# Altium schematic symbol library 105314-2104.SchLib: 1 symbol
Pins are listed as number, name and electrical type; pins without a type are passive.

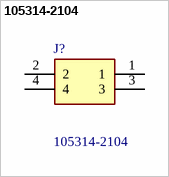
[diagram p0: symbol 105314-2104]

## 105314-2104
designator J?
Headers & Wire Housings NANOFIT HDR RA DLR 4CKT TIN NAT; Manufacturer_Name: Molex; Geometry.Height: 9.14mm; Mouser Part Number: 538-105314-2104; Mouser Price/Stock: https://www.mouser.co.uk/ProductDetail/Molex/105314-2104?qs=5aG0NVq1C4z8s50hNvpgCw%3D%3D; Manufacturer_Part_Number: 105314-2104; Datasheet Link: https://componentsearchengine.com/Datasheets/1/105314-2104.pdf
footprint 1053142104
pins: 1, 2, 3, 4